# EAGLE library part 74LVC125AD (library growbot)
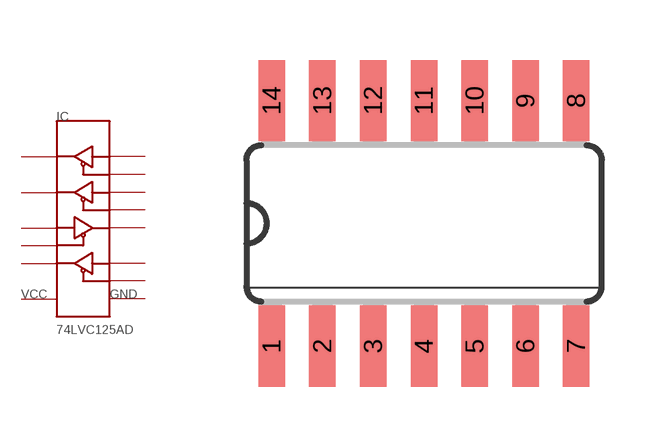
[diagram p5: symbol with the pads of SO14; footprint SO14]

Designator prefix IC

## 74LVC125AD  [SO14]
1  !1OE
2  1A
3  1Y
4  !2OE
5  2A
6  2Y
7  GND
8  3Y
9  3A
10  !3OE
11  4Y
12  4A
13  !4OE
14  VCC

## Footprint SO14 (pad centres in mm)
SO14
smd 0.66 x 2.032: 1 -3.81,-3.073; 2 -2.54,-3.073; 3 -1.27,-3.073; 4 0,-3.073; 5 1.27,-3.073; 6 2.54,-3.073; 7 3.81,-3.073; 8 3.81,3.073; 9 2.54,3.073; 10 1.27,3.073; 11 0,3.073; 12 -1.27,3.073; 13 -2.54,3.073; 14 -3.81,3.073